# Altium footprint library SSW-104-02-T-S-RA.PcbLib: 1 footprints
Each footprint in its own frame and in the unit in brackets; x right, y up, seen from the top. Pads: shape width x height; smd on the part's side, far side on the other; paste and mask are expansions set on the pad; w line width, h text height; cw(c..) or ccw(c..) is an arc to the next point about the centre after c.
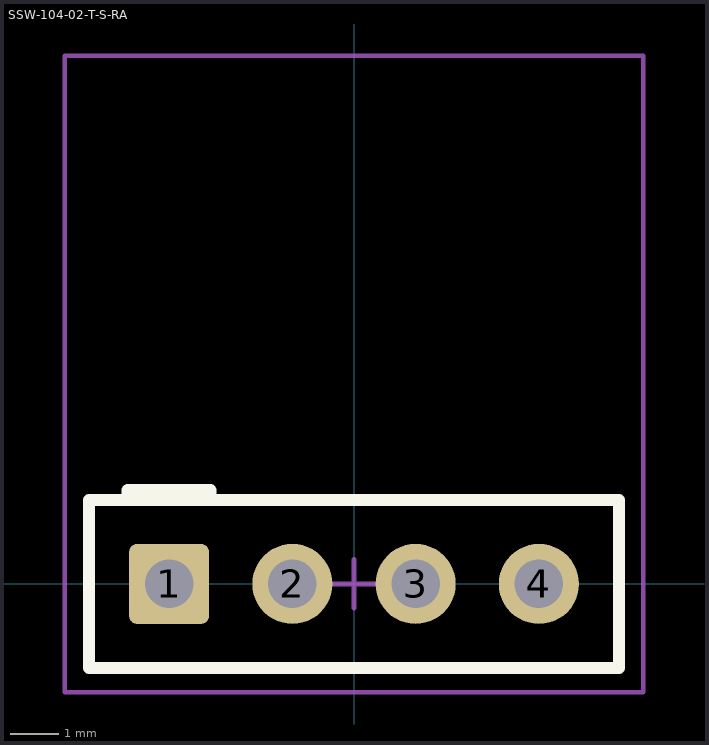
[diagram p0: the footprint, top view; thin cyan lines are the x and y axes]

## SSW-104-02-T-S-RA [mm] "Header, 2.54mm, Female, R/A, 4pos, 1row"
pads (4):
  rrect20% 1.65x1.65 hole 1: 1(-3.81,0)
  round 1.65 hole 1: 2(-1.27,0) 3(1.27,0) 4(3.81,0)
Top Overlay:
  lines w0.25: -4.66,1.73 -4.66,1.93 -2.96,1.93 -2.96,1.73 ; -5.46,-1.73 -5.46,1.73 5.46,1.73 5.46,-1.73 -5.46,-1.73
Comp Outl Top THT:
  lines w0.15: -5.46,-1.73 -5.46,1.73 5.46,1.73 5.46,-1.73 -5.46,-1.73
Desg Top THT:
  text ".Designator" at -5.158,-0.97 h1.5
Value Top THT:
  text ".Comment" at -7.158,-3.47 h1.5
Courtyard Top:
  lines w0.1: -0.5,0 0.5,0 ; 0,-0.5 0,0.5 ; -5.96,-2.23 5.96,-2.23 5.96,10.88 -5.96,10.88 -5.96,-2.23
3D body "SSW-104-02-T-S-RA.stp": height 3.91, standoff -1.03, extent -5.334,-0.203 5.334,10.033